# Altium footprint library INDPM108100X400N.PcbLib: 1 footprints
Each footprint in its own frame and in the unit in brackets; x right, y up, seen from the top. Pads: shape width x height; smd on the part's side, far side on the other; paste and mask are expansions set on the pad; w line width, h text height; cw(c..) or ccw(c..) is an arc to the next point about the centre after c.
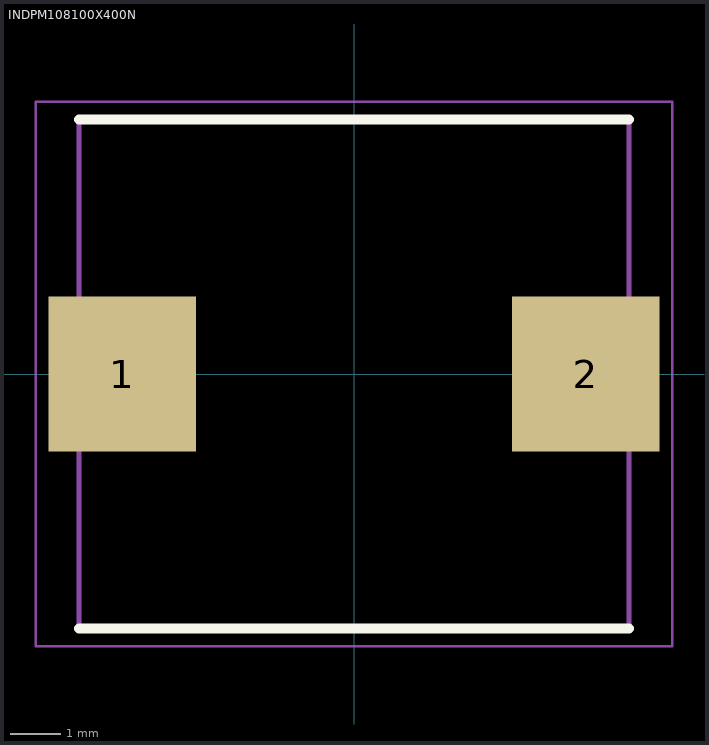
[diagram p0: the footprint, top view; thin cyan lines are the x and y axes]

## INDPM108100X400N [mm]
pads (2):
  rect 2.9x3.05 smd: 1(-4.55,0) 2(4.55,0)
Top Overlay:
  lines w0.2: -5.4,-5 5.4,-5 ; -5.4,5 5.4,5
Mechanical 15:
  lines w0.1: -5.4,-5 5.4,-5 5.4,5 -5.4,5 -5.4,-5
Mechanical 20:
  lines w0.05: -6.25,-5.35 6.25,-5.35 6.25,5.35 -6.25,5.35 -6.25,-5.35